# EAGLE library part NES-EDGE-PIN_ORDER (library nintendo_nes_cartedge)
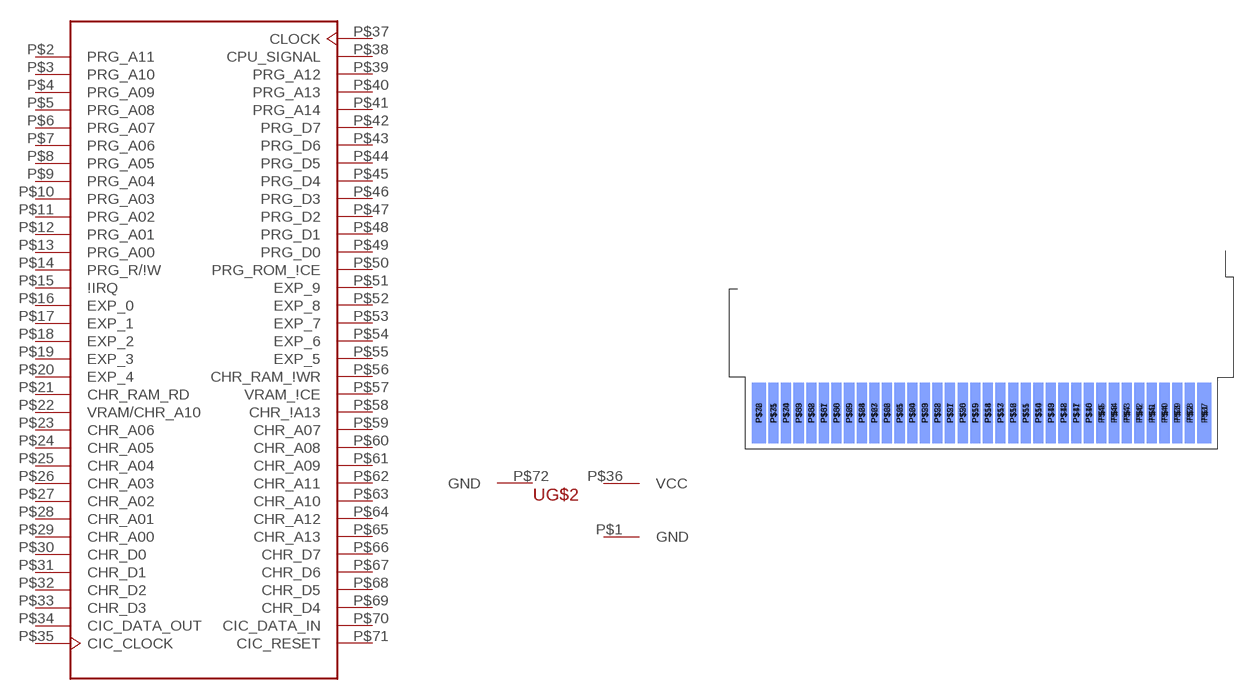
[diagram p1: symbol with the pads of NES-EDGE; footprint NES-EDGE]

Designator prefix -; gates G$1=NES-EDGE-PIN_ORDER G$2=GND-VCC G$3=GND

## NES-EDGE-PIN_ORDER  [NES-EDGE]
P$1  G$3:GND  pwr
P$2  G$1:PRG_A11  out
P$3  G$1:PRG_A10  out
P$4  G$1:PRG_A09  out
P$5  G$1:PRG_A08  out
P$6  G$1:PRG_A07  out
P$7  G$1:PRG_A06  out
P$8  G$1:PRG_A05  out
P$9  G$1:PRG_A04  out
P$10  G$1:PRG_A03  out
P$11  G$1:PRG_A02  out
P$12  G$1:PRG_A01  out
P$13  G$1:PRG_A00  out
P$14  G$1:PRG_R/\!W  in
P$15  G$1:\!IRQ  in
P$16  G$1:EXP_0  in
P$17  G$1:EXP_1  in
P$18  G$1:EXP_2  in
P$19  G$1:EXP_3  in
P$20  G$1:EXP_4  in
P$21  G$1:CHR_RAM_RD  in
P$22  G$1:VRAM/CHR_A10  in
P$23  G$1:CHR_A06  out
P$24  G$1:CHR_A05  out
P$25  G$1:CHR_A04  out
P$26  G$1:CHR_A03  out
P$27  G$1:CHR_A02  out
P$28  G$1:CHR_A01  out
P$29  G$1:CHR_A00  out
P$30  G$1:CHR_D0  in
P$31  G$1:CHR_D1  in
P$32  G$1:CHR_D2  in
P$33  G$1:CHR_D3  in
P$34  G$1:CIC_DATA_OUT  out
P$35  G$1:CIC_CLOCK  out
P$36  G$2:VCC  pwr
P$37  G$1:CLOCK  in
P$38  G$1:CPU_SIGNAL  in
P$39  G$1:PRG_A12  out
P$40  G$1:PRG_A13  out
P$41  G$1:PRG_A14  out
P$42  G$1:PRG_D7  in
P$43  G$1:PRG_D6  in
P$44  G$1:PRG_D5  in
P$45  G$1:PRG_D4  in
P$46  G$1:PRG_D3  in
P$47  G$1:PRG_D2  in
P$48  G$1:PRG_D1  in
P$49  G$1:PRG_D0  in
P$50  G$1:PRG_ROM_\!CE  in
P$51  G$1:EXP_9  in
P$52  G$1:EXP_8  in
P$53  G$1:EXP_7  in
P$54  G$1:EXP_6  in
P$55  G$1:EXP_5  in
P$56  G$1:CHR_RAM_\!WR  in
P$57  G$1:VRAM_\!CE  in
P$58  G$1:CHR_\!A13  in
P$59  G$1:CHR_A07  out
P$60  G$1:CHR_A08  out
P$61  G$1:CHR_A09  out
P$62  G$1:CHR_A11  out
P$63  G$1:CHR_A10  out
P$64  G$1:CHR_A12  out
P$65  G$1:CHR_A13  out
P$66  G$1:CHR_D7  in
P$67  G$1:CHR_D6  in
P$68  G$1:CHR_D5  in
P$69  G$1:CHR_D4  in
P$70  G$1:CIC_DATA_IN  out
P$71  G$1:CIC_RESET  out
P$72  G$2:GND  pwr

## Footprint NES-EDGE (pad centres in mm)
smd 2.8 x 12: P$1 44.15,-10.319; P$36 -44.15,-10.319
smd 2 x 12: P$2 41.25,-10.319; P$3 38.75,-10.319; P$4 36.25,-10.319; P$5 33.75,-10.319; P$6 31.25,-10.319; P$7 28.75,-10.319; P$8 26.25,-10.319; P$9 23.75,-10.319; P$10 21.25,-10.319; P$11 18.75,-10.319; P$12 16.25,-10.319; P$13 13.75,-10.319; P$14 11.25,-10.319; P$15 8.75,-10.319; P$16 6.25,-10.319; P$17 3.75,-10.319; P$18 1.25,-10.319; P$19 -1.25,-10.319; P$20 -3.75,-10.319; P$21 -6.25,-10.319; P$22 -8.75,-10.319; P$23 -11.25,-10.319; P$24 -13.75,-10.319; P$25 -16.25,-10.319; P$26 -18.75,-10.319; P$27 -21.25,-10.319; P$28 -23.75,-10.319; P$29 -26.25,-10.319; P$30 -28.75,-10.319; P$31 -31.25,-10.319; P$32 -33.75,-10.319; P$33 -36.25,-10.319; P$34 -38.75,-10.319; P$35 -41.25,-10.319
smd 2.8 x 12 bottom: P$37 44.15,-10.319; P$72 -44.15,-10.319
smd 2 x 12 bottom: P$38 41.25,-10.319; P$39 38.75,-10.319; P$40 36.25,-10.319; P$41 33.75,-10.319; P$42 31.25,-10.319; P$43 28.75,-10.319; P$44 26.25,-10.319; P$45 23.75,-10.319; P$46 21.25,-10.319; P$47 18.75,-10.319; P$48 16.25,-10.319; P$49 13.75,-10.319; P$50 11.25,-10.319; P$51 8.75,-10.319; P$52 6.25,-10.319; P$53 3.75,-10.319; P$54 1.25,-10.319; P$55 -1.25,-10.319; P$56 -3.75,-10.319; P$57 -6.25,-10.319; P$58 -8.75,-10.319; P$59 -11.25,-10.319; P$60 -13.75,-10.319; P$61 -16.25,-10.319; P$62 -18.75,-10.319; P$63 -21.25,-10.319; P$64 -23.75,-10.319; P$65 -26.25,-10.319; P$66 -28.75,-10.319; P$67 -31.25,-10.319; P$68 -33.75,-10.319; P$69 -36.25,-10.319; P$70 -38.75,-10.319; P$71 -41.25,-10.319